# Altium schematic symbol library DM3AT-SF-PEJM5.SchLib: 1 symbol
Pins are listed as number, name and electrical type; pins without a type are passive.

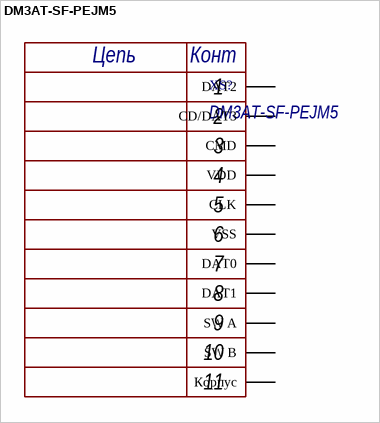
[diagram p0: symbol DM3AT-SF-PEJM5]

## DM3AT-SF-PEJM5
designator XS?
10 (8 + 2) Position Card Connector Secure Digital - microSD, Surface Mount, Right Angle Gold
pins: 1 DAT2, 2 CD/DAT3, 3 CMD, 4 VDD, 5 CLK, 6 VSS, 7 DAT0, 8 DAT1, SH Корпус, SWA SW A, SWB SW B
text: Цепь; Конт; 9; 10; 11